# EAGLE library part 750315340 (library WE-OLTI)
WE-OLTI Offline Flyback Transformers Characteristics Nominal input voltage: 85–265 VAC (120–375 VDC) Small size Low leakage inductance Multiple-output options Operating temperature: −40 °C to +125 °C Isolation Voltage: 2 kVAC to 5 kVAC Options for fixed frequency or quasi-resonant mode operation Most products meet reinforced insulation Applications Industrial controls USB chargers Utility metering devices Process controls Factory automation Security systems Garage door opener auxiliary supplies Home appliances Especially designed for several ICs from Texas Instruments <https://www.we-online.com/components/media/o814034v209%20UtOLTI%20Group%20CGI.jpg> Details see: www.we-online.com/en/components/products/WE-OLTI <www.we-online.com/catalog/WE-OLTI/?utm_source=eagle_model&utm_medium=description_link&utm_campaign=eisos_eagle> Created by Ella Wu 2025-02-06 2025 (C) Wurth Elektronik
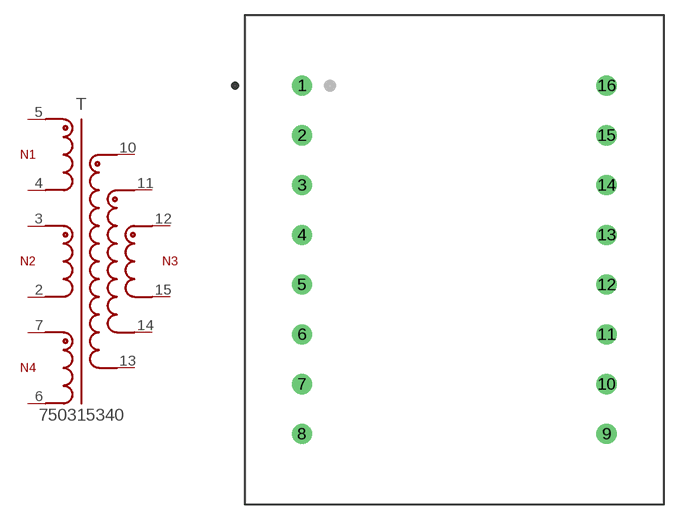
[diagram p28: symbol with the pads of WE-OLTI_ETD39_L49W41.9H31.75; footprint WE-OLTI_ETD39_L49W41.9H31.75]

Designator prefix T

## 750315340 (DATASHEET-URL: https://www.we-online.com/redexpert/spec/750315340?ae; FSWITCH: 60kHz; HEIGHT: 31.75mm; IOUT1: 10000mA; ISAT: 15A; L: 200uH; LENGTH: 49mm; MOUNT: THT; N: 4.5:1:0.5; PART-NUMBER: 750315340; SIZE: ETD39; VALUE: 200uH; VAUX: 12V; VIN: 200 - 265 V (AC); VOUT1: 24V; VT: 3000V(AC); WIDTH: 41.9mm)  [WE-OLTI_ETD39_L49W41.9H31.75]
2  2  pas
3  3  pas
4  4  pas
5  5  pas
6  6  pas
7  7  pas
10  10  pas
11  11  pas
12  12  pas
13  13  pas
14  14  pas
15  15  pas

## Footprint WE-OLTI_ETD39_L49W41.9H31.75 (pad centres in mm)
WE-OLTI Offline Flyback Transformers Size: ETD39,THT,16pins LXWXH=49X41.9X31.75mm Bobbin: 070-5724
drill 1.35: 1 -15.3,17.5; 2 -15.3,12.5; 3 -15.3,7.5; 4 -15.3,2.5; 5 -15.3,-2.5; 6 -15.3,-7.5; 7 -15.3,-12.5; 8 -15.3,-17.5; 9 15.3,-17.5; 10 15.3,-12.5; 11 15.3,-7.5; 12 15.3,-2.5; 13 15.3,2.5; 14 15.3,7.5; 15 15.3,12.5; 16 15.3,17.5